# Altium footprint library PusleBeeper.PcbLib: 10 footprints
Each footprint in its own frame and in the unit in brackets; x right, y up, seen from the top. Pads: shape width x height; smd on the part's side, far side on the other; paste and mask are expansions set on the pad; w line width, h text height; cw(c..) or ccw(c..) is an arc to the next point about the centre after c.
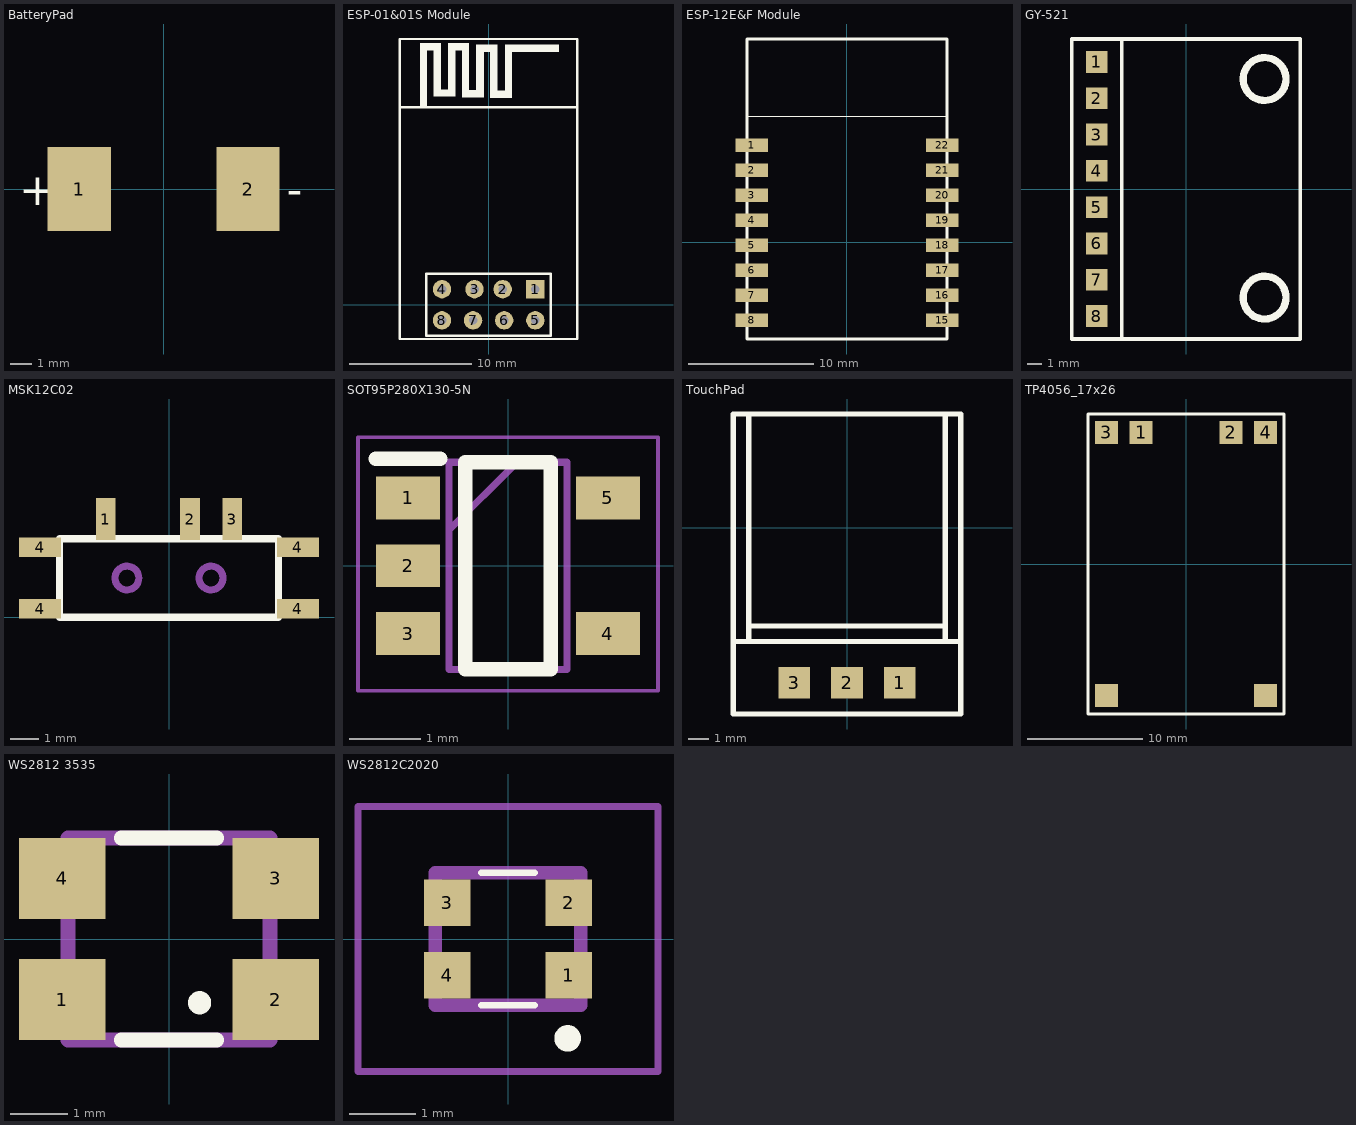
[diagram p0: the footprints below, top view; thin cyan lines are the x and y axes]

## BatteryPad [mm]
pads (2):
  rect 3x4 smd: 1(-4,0) 2(4,0)
Top Overlay:
  text "+" at -6.858,-0.762 h1.52
  text "-" at 5.842,-0.762 h1.52

## ESP-01&01S Module [mm]
pads (8):
  rect 1.5x1.5 hole 0.7: 1(3.81,1.27)
  round 1.5 hole 0.7: 2(1.15,1.27) 3(-1.15,1.27) 4(-3.81,1.27) 5(3.81,-1.27) 6(1.27,-1.27) 7(-1.27,-1.27) 8(-3.81,-1.27)
Top Overlay:
  rectangle: 1.919,20.65 5.755,21.26
  rectangle: 1.335,17.501 1.919,21.26
  rectangle: 0.726,16.891 1.919,17.501
  rectangle: 0.116,16.891 0.726,20.65
  rectangle: -0.392,20.65 0.726,21.26
  rectangle: -1.027,17.526 -0.392,21.26
  rectangle: -1.586,16.942 -0.392,17.526
  rectangle: -2.17,16.942 -1.586,20.777
  rectangle: -2.703,20.777 -1.586,21.361
  rectangle: -3.313,17.602 -2.703,21.361
  rectangle: -3.897,17.018 -2.703,17.602
  rectangle: -4.507,17.018 -3.897,20.777
  rectangle: -5.015,20.777 -3.897,21.361
  rectangle: -5.599,16.129 -5.015,21.361
  lines w0.2: -7.25,16.129 7.25,16.129 ; -7.25,-2.794 -7.25,21.706 7.25,21.706 7.25,-2.794 -7.25,-2.794 ; -5.08,-2.54 5.08,-2.54 5.08,2.54 -5.08,2.54 -5.08,-2.54

## ESP-12E&F Module [mm]
pads (16):
  rect 2.6x1.1 smd: 1(-7.6,7.75) 2(-7.6,5.75) 3(-7.6,3.75) 4(-7.6,1.75) 5(-7.6,-0.25) 6(-7.6,-2.25) 7(-7.6,-4.25) 8(-7.6,-6.25) 15(7.6,-6.25) 16(7.6,-4.25) 17(7.6,-2.25) 18(7.6,-0.25) 19(7.6,1.75) 20(7.6,3.75) 21(7.6,5.75) 22(7.6,7.75)
Top Overlay:
  lines w0.1: -8,10.05 8,10.05
  lines w0.254: -8,-7.75 -8,16.25 8,16.25 8,-7.75 -8,-7.75

## GY-521 [mil]
pads (8):
  rect 60x60 smd mask+4: 1(-246.06,350) 2(-246.06,250) 3(-246.06,150) 4(-246.06,50) 5(-246.06,-50) 6(-246.06,-150) 7(-246.06,-250) 8(-246.06,-350)
Top Overlay:
  circle w20: c216.54,303.15 r59.06
  circle w20: c216.54,-299.21 r59.06
  lines w10: -177.17,-413.39 -177.17,413.39 ; -314.96,-413.39 314.96,-413.39 314.96,413.39 -314.96,413.39 -314.96,-413.39

## MSK12C02 [mm]
pads (7):
  rect 0.7x1.5 smd: 1(-2.25,3.5) 2(0.75,3.5) 3(2.25,3.5)
  rect 1.5x0.7 smd: 4(-4.6,0.3) 4(-4.6,2.5) 4(4.6,0.3) 4(4.6,2.5)
Top Overlay:
  lines w0.254: -3.9,0 0,0 3.9,0 3.9,2.8 -3.9,2.8 -3.9,0
Mechanical 1:
  circle w0.254: c1.5,1.4 r0.425
  circle w0.254: c-1.5,1.4 r0.425

## SOT95P280X130-5N [mm]
pads (5):
  rect 0.9x0.6 smd: 1(-1.4,0.95) 2(-1.4,0) 3(-1.4,-0.95) 4(1.4,-0.95) 5(1.4,0.95)
Top Overlay:
  lines w0.2: -1.85,1.5 -0.95,1.5 ; -0.6,-1.45 -0.6,1.45 0.6,1.45 0.6,-1.45 -0.6,-1.45
Mechanical 13:
  lines w0.1: -0.825,0.5 0.125,1.45 ; -0.825,-1.45 -0.825,1.45 0.825,1.45 0.825,-1.45 -0.825,-1.45
Mechanical 15:
  lines w0.05: -2.1,-1.75 -2.1,1.8 2.1,1.8 2.1,-1.75 -2.1,-1.75
3D body "XC6219B332MR-G.stp": height 1.3, standoff 0, extent -1.4,-1.45 1.4,1.45

## TouchPad [mil]
pads (3):
  rect 60x60 smd mask+4: 1(100,-295.28) 2(0,-295.28) 3(-100,-295.28)
Top Overlay:
  lines w10: -216.54,-216.54 216.54,-216.54 ; -187.01,-216.54 -187.01,216.54 ; -187.01,-187.01 187.01,-187.01 ; 187.01,-216.54 187.01,216.54 ; -216.54,216.54 -216.54,216.54 ; -216.54,216.54 216.54,216.54 216.54,-354.33 -216.54,-354.33 -216.54,216.54

## TP4056_17x26 [mm]
pads (6):
  rect 2x2 smd mask+0.102: 1(-3.9,11.4) 2(3.9,11.4) 3(-6.9,11.4) 4(6.9,11.4) ""(-6.9,-11.4) ""(6.9,-11.4)
Top Overlay:
  lines w0.254: -8.5,-13 8.5,-13 8.5,13 -8.5,13 -8.5,-13

## WS2812 3535 [mm]
pads (4):
  rect 1.5x1.4 smd: 1(-1.85,-1.05) 2(1.85,-1.05) 3(1.85,1.05) 4(-1.85,1.05)
Top Overlay:
  lines w0.2: 0.43,-1.105 cw(c0.53,-1.105) 0.63,-1.105 cw(c0.53,-1.105) 0.43,-1.105
  lines w0.254: -0.825,-1.75 0.825,-1.75 ; -0.825,1.75 0.825,1.75
Mechanical 13:
  lines w0.254: -1.75,-1.75 1.75,-1.75 1.75,1.75 -1.75,1.75 -1.75,-1.75

## WS2812C2020 [mm]
pads (4):
  rect 0.7x0.7 smd: 1(0.915,-0.55) 2(0.915,0.55) 3(-0.915,0.55) 4(-0.915,-0.55)
Top Overlay:
  lines w0.1: -0.4,-1 0.4,-1 ; -0.4,1 0.4,1
  lines w0.2: 0.8,-1.5 ccw(c0.9,-1.5) 1,-1.5 ccw(c0.9,-1.5) 0.8,-1.5
Mechanical 13:
  lines w0.2: -1.1,-1 1.1,-1 1.1,1 -1.1,1 -1.1,-1
Mechanical 15:
  lines w0.1: -2.265,-2 -2.265,2 2.265,2 2.265,-2 -2.265,-2
3D body "WS2812C-2020.stp": height 0.94, standoff 0, extent -1.1,-1 1.1,1